# Altium footprint library MSOP-8_MAXIM.PcbLib: 1 footprints
Each footprint in its own frame and in the unit in brackets; x right, y up, seen from the top. Pads: shape width x height; smd on the part's side, far side on the other; paste and mask are expansions set on the pad; w line width, h text height; cw(c..) or ccw(c..) is an arc to the next point about the centre after c.
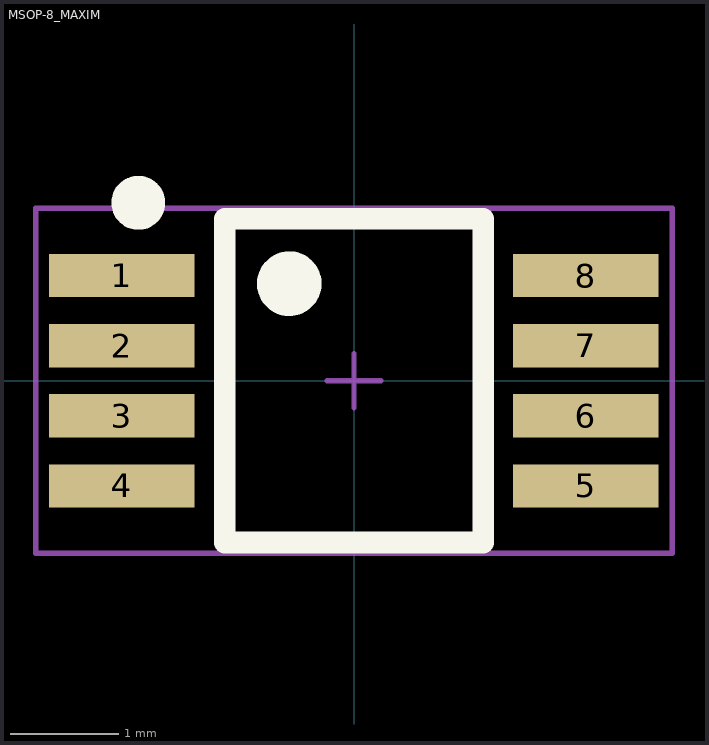
[diagram p0: the footprint, top view; thin cyan lines are the x and y axes]

## MSOP-8_MAXIM [mm] "Maxim Integrated 8 uMax"
pads (8):
  rect 1.35x0.4 smd paste-0.07 mask+0.05: 1(-2.152,0.975) 2(-2.152,0.325) 3(-2.152,-0.325) 4(-2.152,-0.975) 5(2.15,-0.975) 6(2.15,-0.325) 7(2.15,0.325) 8(2.15,0.975)
Top Overlay:
  circle w0.3: c-0.6,0.9 r0.15
  circle w0.25: c-2,1.65 r0.125
  lines w0.2: -1.2,-1.5 -1.2,1.5 1.2,1.5 1.2,-1.5 -1.2,-1.5
Mechanical 15:
  lines w0.05: -0.25,0 0.25,0 ; 0,-0.25 0,0.25 ; -2.95,-1.6 2.95,-1.6 2.95,1.6 -2.95,1.6 -2.95,-1.6
3D body: height 1, standoff 0, extent -1.5,-1.5 1.5,1.5